# EAGLE library part AT32A (library RoboJackets-ICs)
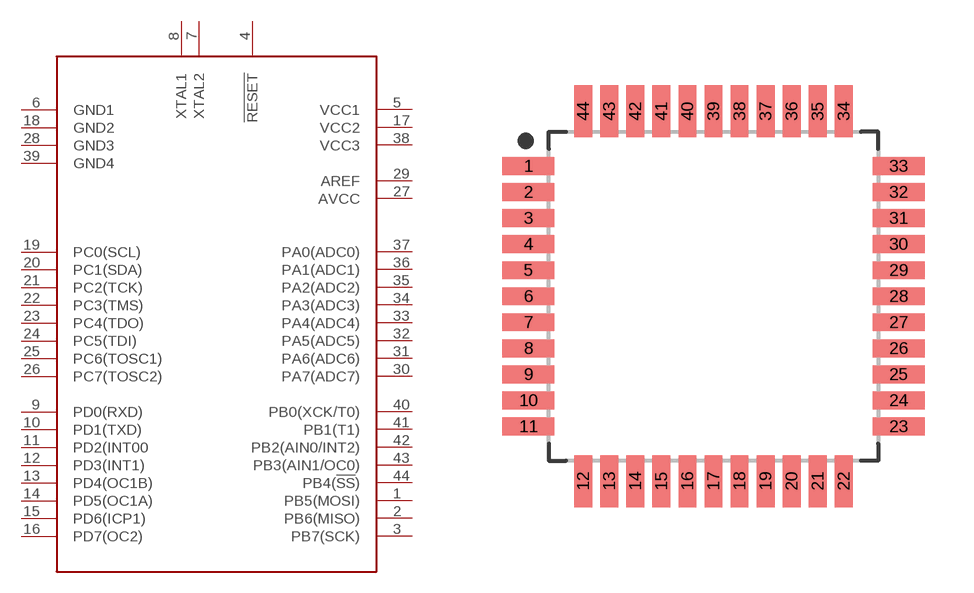
[diagram p26: symbol with the pads of QFP80P1200X1200X120-44; footprint QFP80P1200X1200X120-44]

Designator prefix U

## AT32ATQFP44  [QFP80P1200X1200X120-44]
1  PB5(MOSI)
2  PB6(MISO)
3  PB7(SCK)
4  !RESET!
5  VCC1
6  GND1
7  XTAL2
8  XTAL1
9  PD0(RXD)
10  PD1(TXD)
11  PD2(INT00
12  PD3(INT1)
13  PD4(OC1B)
14  PD5(OC1A)
15  PD6(ICP1)
16  PD7(OC2)
17  VCC2
18  GND2
19  PC0(SCL)
20  PC1(SDA)
21  PC2(TCK)
22  PC3(TMS)
23  PC4(TDO)
24  PC5(TDI)
25  PC6(TOSC1)
26  PC7(TOSC2)
27  AVCC
28  GND3
29  AREF
30  PA7(ADC7)
31  PA6(ADC6)
32  PA5(ADC5)
33  PA4(ADC4)
34  PA3(ADC3)
35  PA2(ADC2)
36  PA1(ADC1)
37  PA0(ADC0)
38  VCC3
39  GND4
40  PB0(XCK/T0)
41  PB1(T1)
42  PB2(AIN0/INT2)
43  PB3(AIN1/OC0)
44  PB4(!SS!)

## Footprint QFP80P1200X1200X120-44 (pad centres in mm)
44-QFP, 0.8 mm pitch, 12 mm span, 10 X 10 X 1.2 mm body 44-pin QFP package with 0.8 mm pitch, 12 mm lead span1 X 12 mm lead span2 with body size 10 X 10 X 1.2 mm
smd 1.6 x 0.547: 1 -5.681,4; 2 -5.681,3.2; 3 -5.681,2.4; 4 -5.681,1.6; 5 -5.681,0.8; 6 -5.681,0; 7 -5.681,-0.8; 8 -5.681,-1.6; 9 -5.681,-2.4; 10 -5.681,-3.2; 11 -5.681,-4; 23 5.681,-4; 24 5.681,-3.2; 25 5.681,-2.4; 26 5.681,-1.6; 27 5.681,-0.8; 28 5.681,0; 29 5.681,0.8; 30 5.681,1.6; 31 5.681,2.4; 32 5.681,3.2; 33 5.681,4
smd 0.547 x 1.6: 12 -4,-5.681; 13 -3.2,-5.681; 14 -2.4,-5.681; 15 -1.6,-5.681; 16 -0.8,-5.681; 17 0,-5.681; 18 0.8,-5.681; 19 1.6,-5.681; 20 2.4,-5.681; 21 3.2,-5.681; 22 4,-5.681; 34 4,5.681; 35 3.2,5.681; 36 2.4,5.681; 37 1.6,5.681; 38 0.8,5.681; 39 0,5.681; 40 -0.8,5.681; 41 -1.6,5.681; 42 -2.4,5.681; 43 -3.2,5.681; 44 -4,5.681